# Altium integrated library Radiator_X2.IntLib: 1 symbol
Pins are listed as number, name and electrical type; pins without a type are passive.

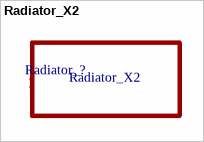
[diagram p0: symbol Radiator_X2]

## Radiator_X2
designator Radiator_?
footprint Radiator_X2